# Altium schematic symbol library 1825289-1.SchLib: 1 symbol
Pins are listed as number, name and electrical type; pins without a type are passive.

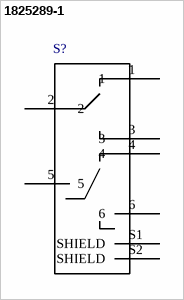
[diagram p0: symbol 1825289-1]

## 1825289-1
designator S?  (value not drawn)
MHS22204=DPDT SL SW VERT AG; Configuration_Pole-Throw: Double Pole - Double Throw; MF: TE Connectivity; Switch_Type: Slide; Contact_Current_Rating: .3 A; MP: 1825289-1; SnapEDA_Link: https://www.snapeda.com/parts/1825289-1/TE%20Connectivity%20ALCOSWITCH%20Switches/view-part/?ref=snap; Availability: Unavailable; Package: None; Link: http://www.te.com/usa-en/product-1825289-1.html; Price: None; EU_RoHS_Compliance: Compliant; Value: *
footprint SW_1825289-1_1825289-1(Primary)
pins: 1, 2, 3, 4, 5, 6, S1 SHIELD, S2 SHIELD